# EAGLE library part MIC5332 (library pixhawk2)
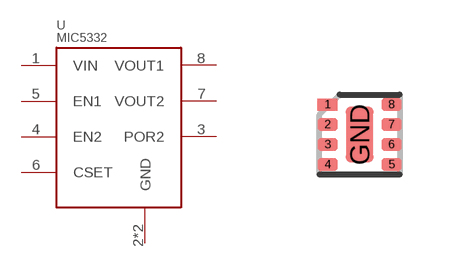
[diagram p84: symbol with the pads of MLF-8-EPAD; footprint MLF-8-EPAD]

Designator prefix -

## MIC5332  [MLF-8-EPAD]
1  VIN
2  GND
3  POR2
4  EN2
5  EN1
6  CSET
7  VOUT2
8  VOUT1
GND  GND

## Footprint MLF-8-EPAD (pad centres in mm)
smd 0.5 x 0.3: 1 -0.8,0.75; 2 -0.8,0.25; 3 -0.8,-0.25; 4 -0.8,-0.75; 5 0.8,-0.75; 6 0.8,-0.25; 7 0.8,0.25; 8 0.8,0.75
smd 0.7 x 1.4: GND 0,0